# EAGLE library part 6PIN_2ROW (library Connectors)
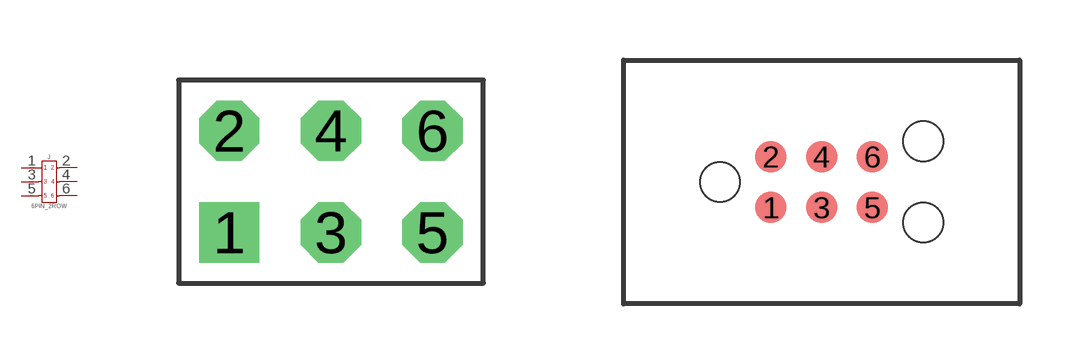
[diagram p7: symbol with the pads of 6PIN_HEADER_2ROW_PITCH2.54MM_TH; footprints 6PIN_HEADER_2ROW_PITCH2.54MM_TH, TC2030_NL]

Designator prefix J

## 6PIN_2ROW_PITCH2.54MM_TH  [6PIN_HEADER_2ROW_PITCH2.54MM_TH]
1  1  pas
2  2  pas
3  3  pas
4  4  pas
5  5  pas
6  6  pas

## 6PIN_2ROW_TC2030_NL  [TC2030_NL]
Pads as for 6PIN_HEADER_2ROW_PITCH2.54MM_TH

## Footprint 6PIN_HEADER_2ROW_PITCH2.54MM_TH (pad centres in mm)
drill 1 square: 1 -2.54,-1.27
drill 1 octagon: 2 -2.54,1.27; 3 0,-1.27; 4 0,1.27; 5 2.54,-1.27; 6 2.54,1.27

## Footprint TC2030_NL (pad centres in mm)
smd 0.787 x 0.787: 1 -1.27,-0.635; 2 -1.27,0.635; 3 0,-0.635; 4 0,0.635; 5 1.27,-0.635; 6 1.27,0.635
hole 0.991 at -2.54,0
hole 0.991 at 2.54,1.016
hole 0.991 at 2.54,-1.016